# Altium schematic symbol library GRM32EC80J107ME20L.SchLib: 2 symbols
Pins are listed as number, name and electrical type; pins without a type are passive.

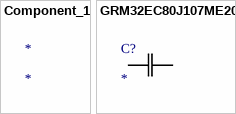
[diagram p0: symbols Component_1 to GRM32EC80J107ME20L]

## Component_1
designator *

## GRM32EC80J107ME20L
designator C?
No Description Available; Mfr_Name: Murata
footprint G-32_MUR
pins: 1, 2